# Altium schematic symbol library MFR-25FRF52-10K.SchLib: 2 symbols
Pins are listed as number, name and electrical type; pins without a type are passive.

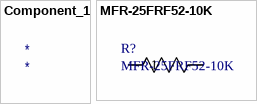
[diagram p0: symbols Component_1 to MFR-25FRF52-10K]

## Component_1
designator *

## MFR-25FRF52-10K
designator R?
No Description Available; Mfr_Name: Yageo; Copyright: Copyright (C) 2022 Ultra Librarian. All rights reserved.; Manufacturer_Part_Number: MFR-25FRF52-10K; Digi-Key_Part_Number_1: 10.0KXTR-ND; RefDes: RefDes; Type: DEV
footprint YAG_MF25_YAG
pins: 1, 2